# EAGLE library part AD5206 (library custom_components)
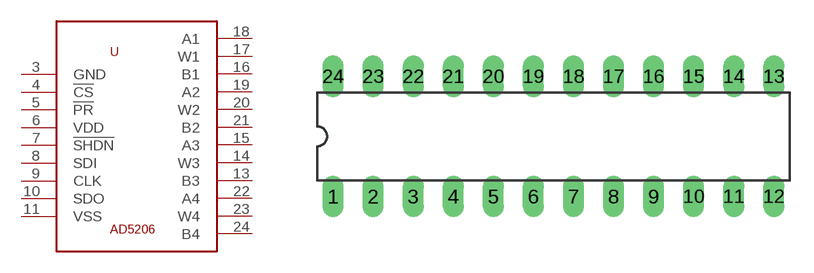
[diagram p0: symbol with the pads of DIL24-3; footprint DIL24-3]

Designator prefix -

## AD5206  [DIL24-3]
3  GND
4  !CS!
5  !PR!
6  VDD
7  !SHDN!
8  SDI
9  CLK
10  SDO
11  VSS
13  B3
14  W3
15  A3
16  B1
17  W1
18  A1
19  A2
20  W2
21  B2
22  A4
23  W4
24  B4

## Footprint DIL24-3 (pad centres in mm)
Dual In Line Package 0.3 inch
drill 0.813 long: 1 -13.97,-3.81; 2 -11.43,-3.81; 3 -8.89,-3.81; 4 -6.35,-3.81; 5 -3.81,-3.81; 6 -1.27,-3.81; 7 1.27,-3.81; 8 3.81,-3.81; 9 6.35,-3.81; 10 8.89,-3.81; 11 11.43,-3.81; 12 13.97,-3.81; 13 13.97,3.81; 14 11.43,3.81; 15 8.89,3.81; 16 6.35,3.81; 17 3.81,3.81; 18 1.27,3.81; 19 -1.27,3.81; 20 -3.81,3.81; 21 -6.35,3.81; 22 -8.89,3.81; 23 -11.43,3.81; 24 -13.97,3.81